# Altium footprint library ECE Lib 22.PcbLib: 47 footprints (part 3 of 3)
Each footprint in its own frame and in the unit in brackets; x right, y up, seen from the top. Pads: shape width x height; smd on the part's side, far side on the other; paste and mask are expansions set on the pad; w line width, h text height; cw(c..) or ccw(c..) is an arc to the next point about the centre after c.
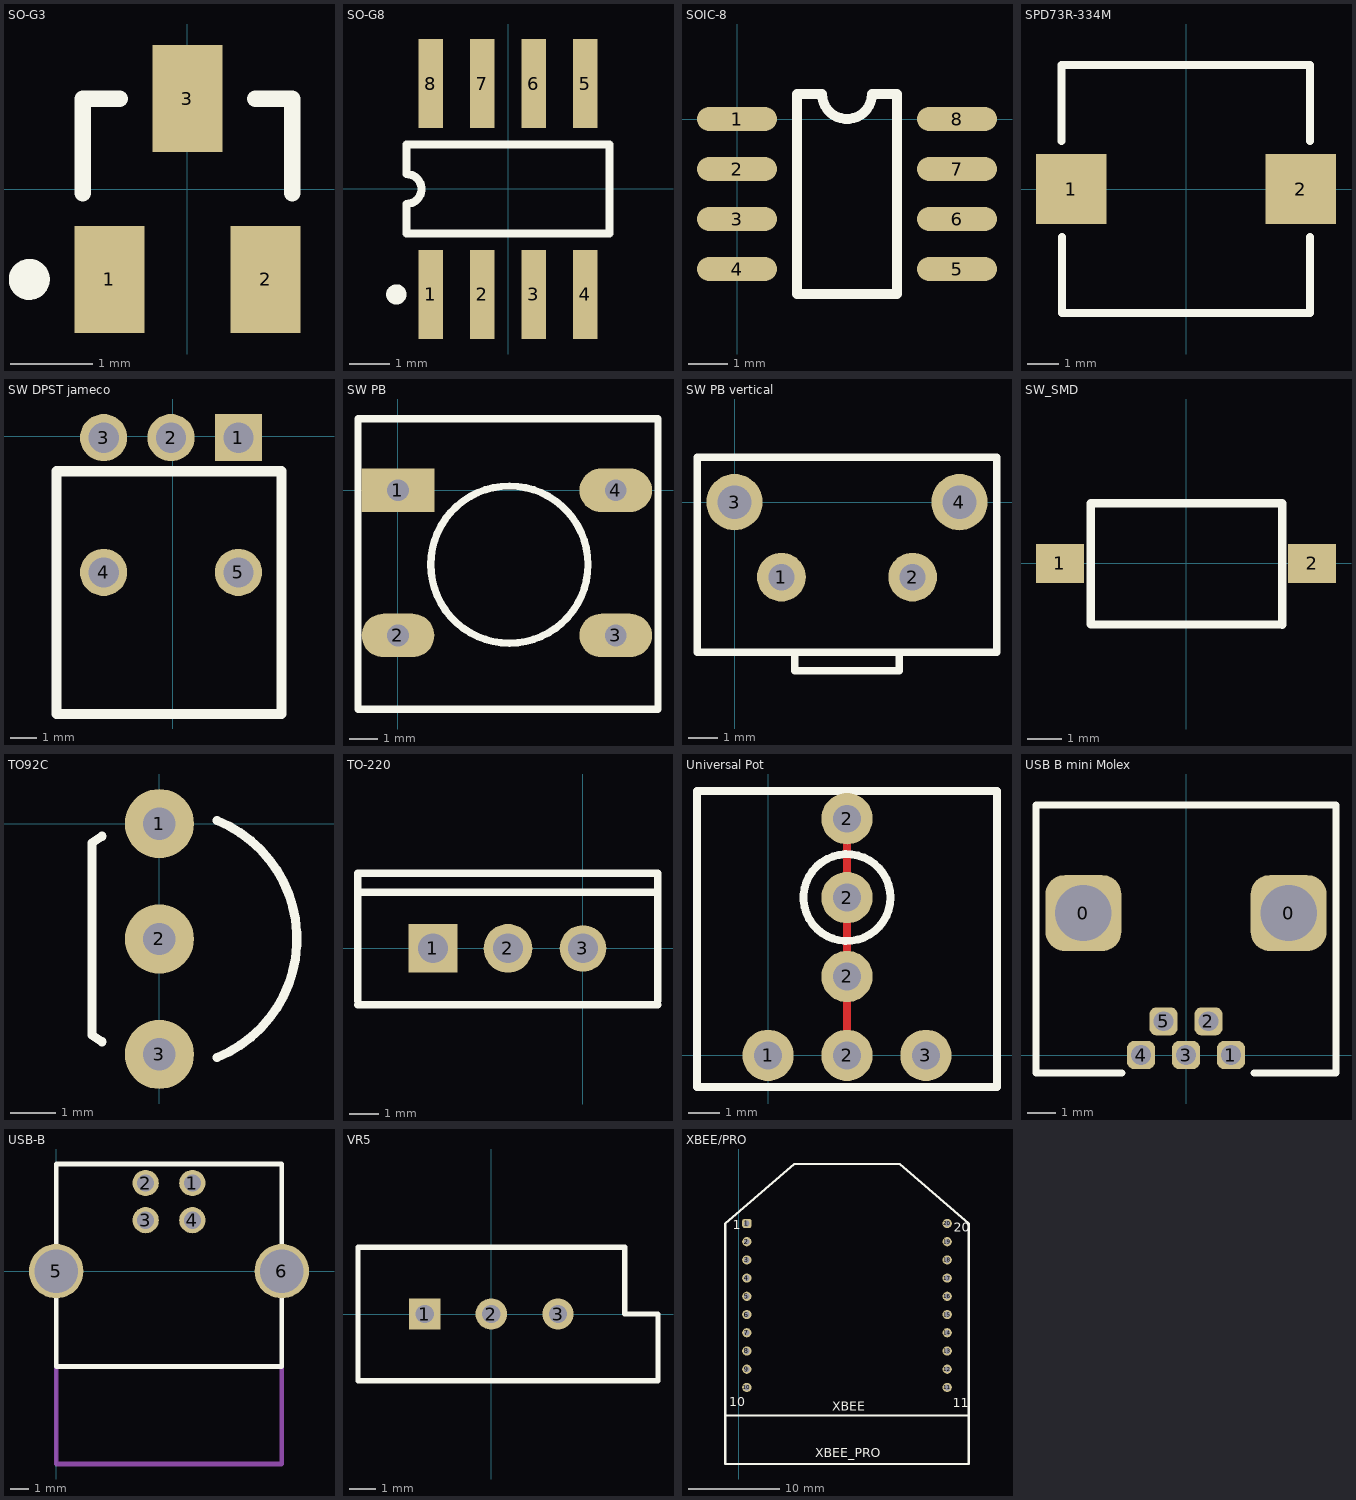
[diagram p2: the footprints below, top view; thin cyan lines are the x and y axes]

## SO-G3 [mm]
pads (3):
  rect 0.85x1.3 smd: 1(-0.95,-1.1) 2(0.95,-1.1) 3(0,1.1)
Top Overlay:
  circle w0.25: c-1.925,-1.1 r0.125
  lines w0.2: -1.275,-0.05 -1.275,1.1 -0.825,1.1 ; 0.825,1.1 1.275,1.1 1.275,-0.05

## SO-G8 [mm]
pads (8):
  rect 0.6x2.2 smd: 1(-1.905,-2.6) 2(-0.635,-2.6) 3(0.635,-2.6) 4(1.905,-2.6) 5(1.905,2.6) 6(0.635,2.6) 7(-0.635,2.6) 8(-1.905,2.6)
Top Overlay:
  circle w0.25: c-2.755,-2.6 r0.125
  lines w0.2: -2.5,-1.1 2.5,-1.1 2.5,1.1 -2.5,1.1 -2.5,0.367 cw(c-2.5,0) -2.5,-0.367 -2.5,-1.1

## SOIC-8 [mil]
pads (8):
  oval 80x24 smd: 1(0,0) 2(0,-50) 3(0,-100) 4(0,-150) 5(220,-150) 6(220,-100) 7(220,-50) 8(220,0)
Top Overlay:
  lines w10: 60,-175 160,-175 160,25 135,25 cw(c110,25) 85,25 60,25 60,-175

## SPD73R-334M [mil]
pads (2):
  rect 88x88 smd: 1(-143.5,0) 2(143.5,0)
Top Overlay:
  lines w10: -155.5,60 -155.5,155 ; -155,-60 -155,-155 155,-155 155,-60 ; -155,155 155,155 155,60

## SW DPST jameco [mil]
pads (5):
  rect 70x70 hole 45: 1(97.64,-1.89)
  round 70 hole 45: 2(-2.36,-1.89) 3(-102.36,-1.89) 4(-102.36,-201.89) 5(97.64,-201.89)
Top Overlay:
  lines w15: -172.36,-411.89 -172.36,-51.89 161.64,-51.89 161.64,-411.89 -172.36,-411.89

## SW PB [mil]
pads (4):
  rect 100x60 hole 30: 1(0,0)
  oval 100x60 hole 30: 2(0,-200) 3(300,-200) 4(300,0)
Top Overlay:
  circle w10: c153.54,-102.36 r108.32
  lines w10: -55.12,-301.57 358.27,-301.57 358.27,98.43 -55.12,98.43 -55.12,-301.57

## SW PB vertical [mil]
pads (4):
  round 65 hole 35: 1(62.5,-100) 2(237.5,-100)
  round 75 hole 45: 3(0,0) 4(300,0)
Top Overlay:
  lines w10: 80,-200 80,-225 220,-225 220,-200 ; -50,-200 -50,60 175,60 350,60 350,-200 -50,-200

## SW_SMD [mil]
pads (2):
  rect 55x45 smd: 1(-145,0) 2(145,0)
Top Overlay:
  lines w10: 110.56,-70.7 110.56,69.15 -109.37,68.94 -109.37,-0.04 -109.37,-70.07 110.78,-70.49

## TO92C [mil]
pads (3):
  round 60 hole 28: 1(0,0) 2(0,-100) 3(0,-200)
Top Overlay:
  lines w7.87: -49.71,-189.08 -58.33,-183.33 -58.33,-16.67 -49.71,-10.92 ; 49.85,-202.76 ccw(c8.33,-100) 49.85,2.76

## TO-220 [mil]
pads (3):
  rect 65x65 hole 39.4: 1(-200,0)
  round 65 hole 39.4: 2(-100,0)
  round 62 hole 39.4: 3(0,0)
Top Overlay:
  lines w10: -300,-75 100,-75 ; -300,-70 -300,100 100,100 100,-70 ; -300,75 100,75

## Universal Pot [mil]
pads (6):
  round 65 hole 35: 1(0,0) 2(100,0) 2(100,100) 2(100,200) 2(100,300) 3(200,0)
Top Layer:
  lines w10: 100,0 100,100 100,200 100,300
Bottom Layer:
  lines w10: 100,0 100,100 100,200 100,300
Top Overlay:
  circle w10: c100,200 r55
  lines w10: -90,-40 290,-40 290,335 -90,335 -90,-40

## USB B mini Molex [mm]
pads (7):
  rrect50% 2.7x2.7 hole 2: 0(-3.65,5.05) 0(3.65,5.05)
  rrect50% 1x1 hole 0.7: 1(1.6,0) 2(0.8,1.2) 3(0,0) 4(-1.6,0) 5(-0.8,1.2)
Top Overlay:
  lines w0.254: -2.286,-0.635 -5.334,-0.635 -5.334,5.08 -5.334,8.89 5.334,8.89 5.334,-0.635 2.413,-0.635

## USB-B [mil]
pads (6):
  round 55 hole 36: 1(286,185) 2(188,185) 3(188,107) 4(286,107)
  round 114.17 hole 91: 5(0,0) 6(474,0)
Top Overlay:
  lines w10: 0,-200 474,-200 474,225 0,225 0,-200
Mechanical 1:
  lines w10: 0,-200 0,-405 474,-405 474,-200

## VR5 [mm]
pads (3):
  rect 1.2x1.2 hole 0.7: 1(-2.54,0)
  round 1.2 hole 0.7: 2(0,0) 3(2.54,0)
Top Overlay:
  lines w0.2: -5.08,-2.54 -5.08,2.54 5.08,2.54 5.08,0 6.35,0 6.35,-2.54 -5.08,-2.54

## XBEE/PRO [mil]
pads (20):
  rrect50% 40x40 hole 25: 1(35,-432.09)
  round 40 hole 25: 2(35,-510.83) 3(35,-589.57) 4(35,-668.31) 5(35,-747.05) 6(35,-825.79) 7(35,-904.53) 8(35,-983.27) 9(35,-1062.01) 10(35,-1140.75) 11(901.14,-1140.75) 12(901.14,-1062.01) 13(901.14,-983.27) 14(901.14,-904.53) 15(901.14,-825.79) 16(901.14,-747.05) 17(901.14,-668.31) 18(901.14,-589.57) 19(901.14,-510.83) 20(901.14,-432.09)
Top Overlay:
  lines w10: -58.7,-1262.09 994.84,-1262.09 ; 994.84,-431.93 994.84,-432.09 ; 994.84,-432.09 994.84,-1471.85 -58.7,-1471.85 -58.7,-432.09 240.12,-175 696.02,-175 994.84,-432.09
  text "20" at 930,-467.09 h40
  text "11" at 925,-1227.09 h40
  text "10" at -40,-1222.09 h40
  text "1" at -25,-457.09 h40
  text "XBEE_PRO" at 330,-1442.09 h40
  text "XBEE" at 405,-1242.09 h40